# EAGLE library part 74XX-EU_74*04 (library ネオぴゅう太_ReplaceLibParts)
Hex INVERTER
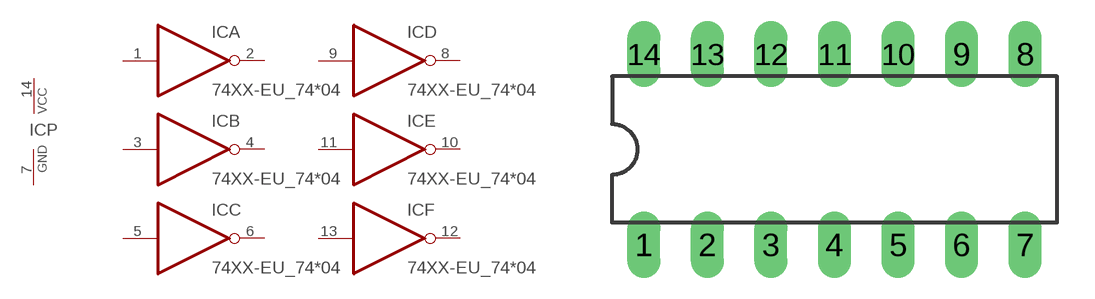
[diagram p1: symbol with the pads of 74XX-EU_DIL14; footprint 74XX-EU_DIL14]

Designator prefix IC; gates A=74XX-EU_7404 B=74XX-EU_7404 C=74XX-EU_7404 D=74XX-EU_7404 E=74XX-EU_7404 F=74XX-EU_7404 P=74XX-EU_PWRN

## 74XX-EU_7404N, 74XX-EU_74AC04N, 74XX-EU_74ACT04N, 74XX-EU_74ALS04N, 74XX-EU_74AS04N, 74XX-EU_74HC04N, 74XX-EU_74HCT04N, 74XX-EU_74LS04N, 74XX-EU_74S04N  [74XX-EU_DIL14]
1  A:I  in
2  A:O  out
3  B:I  in
4  B:O  out
5  C:I  in
6  C:O  out
7  P:GND  pwr
8  D:O  out
9  D:I  in
10  E:O  out
11  E:I  in
12  F:O  out
13  F:I  in
14  P:VCC  pwr

## Footprint 74XX-EU_DIL14 (pad centres in mm)
Dual In Line Package
drill 0.813 long: 1 -7.62,-3.81; 2 -5.08,-3.81; 3 -2.54,-3.81; 4 0,-3.81; 5 2.54,-3.81; 6 5.08,-3.81; 7 7.62,-3.81; 8 7.62,3.81; 9 5.08,3.81; 10 2.54,3.81; 11 0,3.81; 12 -2.54,3.81; 13 -5.08,3.81; 14 -7.62,3.81